# EAGLE library part FPC-44WAY (library pimoroni-fpc)
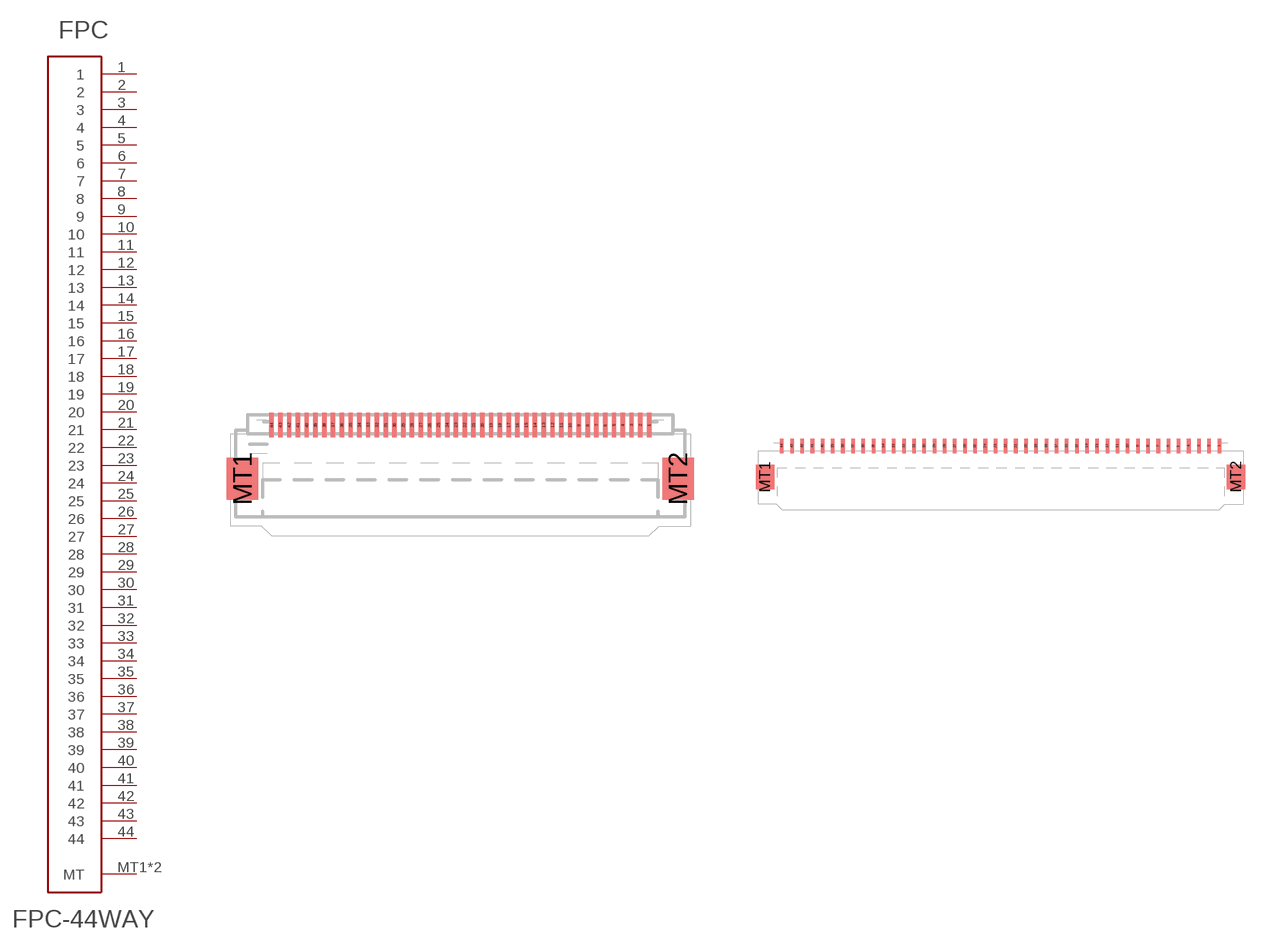
[diagram p39: symbol with the pads of FPC-0.5MM-44WAY; footprints FPC-0.5MM-44WAY, FPC-1.0MM-44WAY]

Designator prefix FPC

## FPC-44WAY0.5  [FPC-0.5MM-44WAY]
1  1
2  2
3  3
4  4
5  5
6  6
7  7
8  8
9  9
10  10
11  11
12  12
13  13
14  14
15  15
16  16
17  17
18  18
19  19
20  20
21  21
22  22
23  23
24  24
25  25
26  26
27  27
28  28
29  29
30  30
31  31
32  32
33  33
34  34
35  35
36  36
37  37
38  38
39  39
40  40
41  41
42  42
43  43
44  44
MT1  MT
MT2  MT

## FPC-44WAY1.0  [FPC-1.0MM-44WAY]
Pads as for FPC-0.5MM-44WAY

## Footprint FPC-0.5MM-44WAY (pad centres in mm)
smd 0.25 x 1.4: 1 10.75,0.7; 2 10.25,0.7; 3 9.75,0.7; 4 9.25,0.7; 5 8.75,0.7; 6 8.25,0.7; 7 7.75,0.7; 8 7.25,0.7; 9 6.75,0.7; 10 6.25,0.7; 11 5.75,0.7; 12 5.25,0.7; 13 4.75,0.7; 14 4.25,0.7; 15 3.75,0.7; 16 3.25,0.7; 17 2.75,0.7; 18 2.25,0.7; 19 1.75,0.7; 20 1.25,0.7; 21 0.75,0.7; 22 0.25,0.7; 23 -0.25,0.7; 24 -0.75,0.7; 25 -1.25,0.7; 26 -1.75,0.7; 27 -2.25,0.7; 28 -2.75,0.7; 29 -3.25,0.7; 30 -3.75,0.7; 31 -4.25,0.7; 32 -4.75,0.7; 33 -5.25,0.7; 34 -5.75,0.7; 35 -6.25,0.7; 36 -6.75,0.7; 37 -7.25,0.7; 38 -7.75,0.7; 39 -8.25,0.7; 40 -8.75,0.7; 41 -9.25,0.7; 42 -9.75,0.7; 43 -10.25,0.7; 44 -10.75,0.7
smd 1.8 x 2.4: MT1 -12.4,-2.35; MT2 12.4,-2.35

## Footprint FPC-1.0MM-44WAY (pad centres in mm)
smd 0.35 x 1.4: 1 21.5,0.7; 2 20.5,0.7; 3 19.5,0.7; 4 18.5,0.7; 5 17.5,0.7; 6 16.5,0.7; 7 15.5,0.7; 8 14.5,0.7; 9 13.5,0.7; 10 12.5,0.7; 11 11.5,0.7; 12 10.5,0.7; 13 9.5,0.7; 14 8.5,0.7; 15 7.5,0.7; 16 6.5,0.7; 17 5.5,0.7; 18 4.5,0.7; 19 3.5,0.7; 20 2.5,0.7; 21 1.5,0.7; 22 0.5,0.7; 23 -0.5,0.7; 24 -1.5,0.7; 25 -2.5,0.7; 26 -3.5,0.7; 27 -4.5,0.7; 28 -5.5,0.7; 29 -6.5,0.7; 30 -7.5,0.7; 31 -8.5,0.7; 32 -9.5,0.7; 33 -10.5,0.7; 34 -11.5,0.7; 35 -12.5,0.7; 36 -13.5,0.7; 37 -14.5,0.7; 38 -15.5,0.7; 39 -16.5,0.7; 40 -17.5,0.7; 41 -18.5,0.7; 42 -19.5,0.7; 43 -20.5,0.7; 44 -21.5,0.7
smd 1.8 x 2.4: MT1 -23.15,-2.35; MT2 23.15,-2.35